# Altium schematic symbol library OPA197IDBVR.SchLib: 1 symbol
Pins are listed as number, name and electrical type; pins without a type are passive.

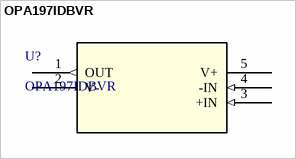
[diagram p0: symbol OPA197IDBVR]

## OPA197IDBVR
designator U?
Single, 36-V, precision, rail-to-rail input output, low offset voltage op amp 5-SOT-23 -40 to 125; Manufacturer_Name: Texas Instruments; Copyright: Copyright (C) 2025 Ultra Librarian. All rights reserved.; Manufacturer_Part_Number: OPA197IDBVR; RefDes: RefDes; Type: Type
footprint DBV5_TEX
pins: 1 OUT (out), 2 V- (power), 3 +IN (in), 4 -IN (in), 5 V+ (power)